# Altium footprint library 1.27mm-80pins-1.PcbLib: 1 footprints
Each footprint in its own frame and in the unit in brackets; x right, y up, seen from the top. Pads: shape width x height; smd on the part's side, far side on the other; paste and mask are expansions set on the pad; w line width, h text height; cw(c..) or ccw(c..) is an arc to the next point about the centre after c.
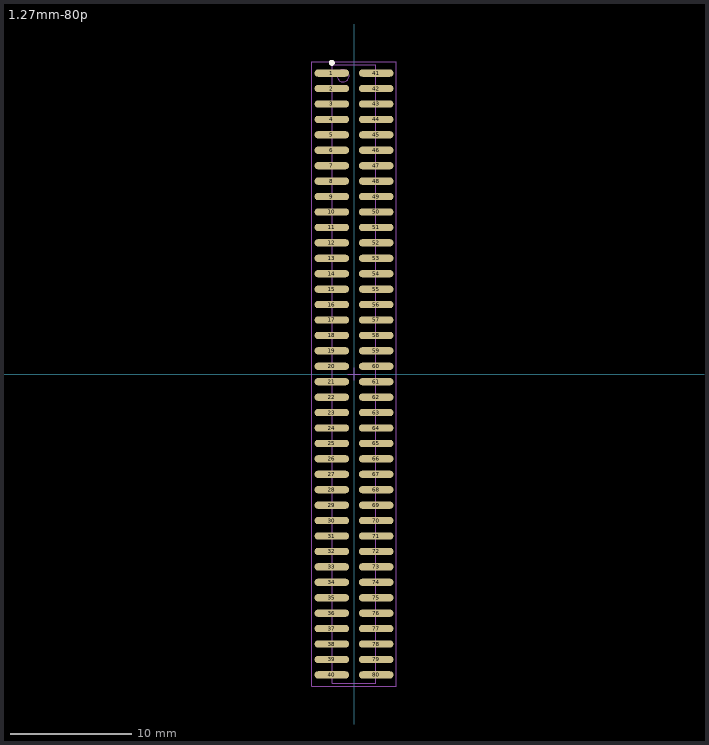
[diagram p0: the footprint, top view; thin cyan lines are the x and y axes]

## 1.27mm-80p [mm] "80-Leads, Body 50,85x3,50mm, Pitch 1,27mm"
height 6
pads (80):
  oval 2.85x0.6 smd: 1(-1.825,24.765) 2(-1.825,23.495) 3(-1.825,22.225) 4(-1.825,20.955) 5(-1.825,19.685) 6(-1.825,18.415) 7(-1.825,17.145) 8(-1.825,15.875) 9(-1.825,14.605) 10(-1.825,13.335) 11(-1.825,12.065) 12(-1.825,10.795) 13(-1.825,9.525) 14(-1.825,8.255) 15(-1.825,6.985) 16(-1.825,5.715) 17(-1.825,4.445) 18(-1.825,3.175) 19(-1.825,1.905) 20(-1.825,0.635) 21(-1.825,-0.635) 22(-1.825,-1.905) 23(-1.825,-3.175) 24(-1.825,-4.445) 25(-1.825,-5.715) 26(-1.825,-6.985) 27(-1.825,-8.255) 28(-1.825,-9.525) 29(-1.825,-10.795) 30(-1.825,-12.065) 31(-1.825,-13.335) 32(-1.825,-14.605) 33(-1.825,-15.875) 34(-1.825,-17.145) 35(-1.825,-18.415) 36(-1.825,-19.685) 37(-1.825,-20.955) 38(-1.825,-22.225) 39(-1.825,-23.495) 40(-1.825,-24.765) 41(1.825,24.765) 42(1.825,23.495) 43(1.825,22.225) 44(1.825,20.955) 45(1.825,19.685) 46(1.825,18.415) 47(1.825,17.145) 48(1.825,15.875) 49(1.825,14.605) 50(1.825,13.335) 51(1.825,12.065) 52(1.825,10.795) 53(1.825,9.525) 54(1.825,8.255) 55(1.825,6.985) 56(1.825,5.715) 57(1.825,4.445) 58(1.825,3.175) 59(1.825,1.905) 60(1.825,0.635) 61(1.825,-0.635) 62(1.825,-1.905) 63(1.825,-3.175) 64(1.825,-4.445) 65(1.825,-5.715) 66(1.825,-6.985) 67(1.825,-8.255) 68(1.825,-9.525) 69(1.825,-10.795) 70(1.825,-12.065) 71(1.825,-13.335) 72(1.825,-14.605) 73(1.825,-15.875) 74(1.825,-17.145) 75(1.825,-18.415) 76(1.825,-19.685) 77(1.825,-20.955) 78(1.825,-22.225) 79(1.825,-23.495) 80(1.825,-24.765)
Top Overlay:
  circle w0.25: c-1.825,25.615 r0.125
Mechanical 13:
  circle w0.1: c-0.9,24.55 r0.5
  lines w0.1: -1.8,-25.45 -1.8,25.45 1.8,25.45 1.8,-25.45 -1.8,-25.45
Mechanical 15:
  lines w0.05: -3.475,-25.7 -3.475,25.7 3.475,25.7 3.475,-25.7 -3.475,-25.7
  lines w0.1: -0.5,0 0.5,0 ; 0,-0.5 0,0.5
3D body: height 6, standoff 0.1, extent -1.038,-25.704 2.562,25.196